# EAGLE library part CON-LEOTRONICS_1296-T08 (library Cosmic Pi V2)
1.27mm SINGLE ROW FEMALE SOCKET Source: http://www.leotronics.co.uk/Conexcon/Data%20Sheets/sec.%20A/1296ing.pdf
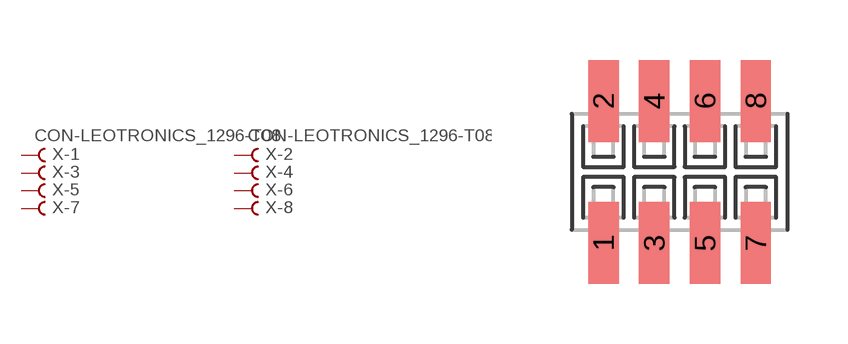
[diagram p9: symbol with the pads of CON-LEOTRONICS_1296-08; footprint CON-LEOTRONICS_1296-08]

Designator prefix X; gates -1=CON-LEOTRONICS_FVAL -2=CON-LEOTRONICS_FVAL -3=CON-LEOTRONICS_F -4=CON-LEOTRONICS_F -5=CON-LEOTRONICS_F -6=CON-LEOTRONICS_F -7=CON-LEOTRONICS_F -8=CON-LEOTRONICS_F

## CON-LEOTRONICS_1296-T08 (OC_FARNELL: unknown; OC_NEWARK: unknown)  [CON-LEOTRONICS_1296-08]
1  -1:B  pas
2  -2:B  pas
3  -3:B  pas
4  -4:B  pas
5  -5:B  pas
6  -6:B  pas
7  -7:B  pas
8  -8:B  pas

## Footprint CON-LEOTRONICS_1296-08 (pad centres in mm)
1.27mm SINGLE ROW FEMALE SOCKET Source: http://www.leotronics.co.uk/Conexcon/Data%20Sheets/sec.%20A/1296ing.pdf
smd 0.76 x 2.05: 1 -1.905,-1.78; 2 -1.905,1.78; 3 -0.635,-1.78; 4 -0.635,1.78; 5 0.635,-1.78; 6 0.635,1.78; 7 1.905,-1.78; 8 1.905,1.78